# EAGLE library part MUX-1X16 (library microbuilder)
1x16 Channel Analog Multiplexer/Demultiplexer [Part No.] Texas Instruments CD74HC4067 Digikey: 296-9226-6-ND
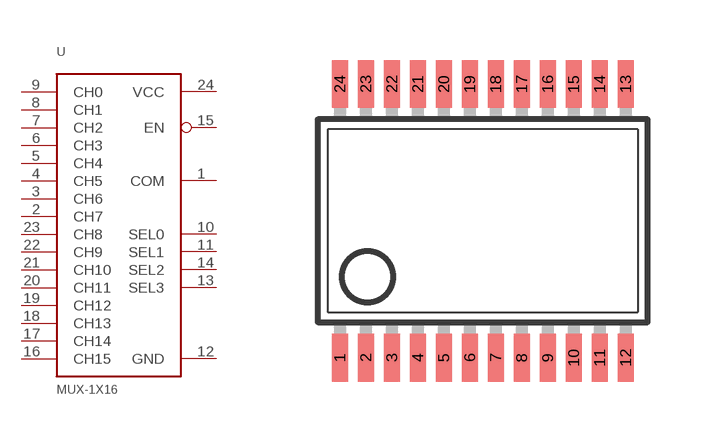
[diagram p16: symbol with the pads of SSOP24; footprint SSOP24]

Designator prefix U

## MUX-1X16  [SSOP24]
1  COM
2  CH7
3  CH6
4  CH5
5  CH4
6  CH3
7  CH2
8  CH1
9  CH0
10  SEL0
11  SEL1
12  GND
13  SEL3
14  SEL2
15  EN
16  CH15
17  CH14
18  CH13
19  CH12
20  CH11
21  CH10
22  CH9
23  CH8
24  VCC

## Footprint SSOP24 (pad centres in mm)
Small Shrink Outline Package SOT340-1 / JEDEC MO-150AG
smd 0.4 x 1.2: 1 -3.575,-3.42; 2 -2.925,-3.42; 3 -2.275,-3.42; 4 -1.625,-3.42; 5 -0.975,-3.42; 6 -0.325,-3.42; 7 0.325,-3.42; 8 0.975,-3.42; 9 1.625,-3.42; 10 2.275,-3.42; 11 2.925,-3.42; 12 3.575,-3.42; 13 3.575,3.42; 14 2.925,3.42; 15 2.275,3.42; 16 1.625,3.42; 17 0.975,3.42; 18 0.325,3.42; 19 -0.325,3.42; 20 -0.975,3.42; 21 -1.625,3.42; 22 -2.275,3.42; 23 -2.925,3.42; 24 -3.575,3.42